# Altium footprint library eggubator.PcbLib: 21 footprints (part 2 of 2)
Each footprint in its own frame and in the unit in brackets; x right, y up, seen from the top. Pads: shape width x height; smd on the part's side, far side on the other; paste and mask are expansions set on the pad; w line width, h text height; cw(c..) or ccw(c..) is an arc to the next point about the centre after c.
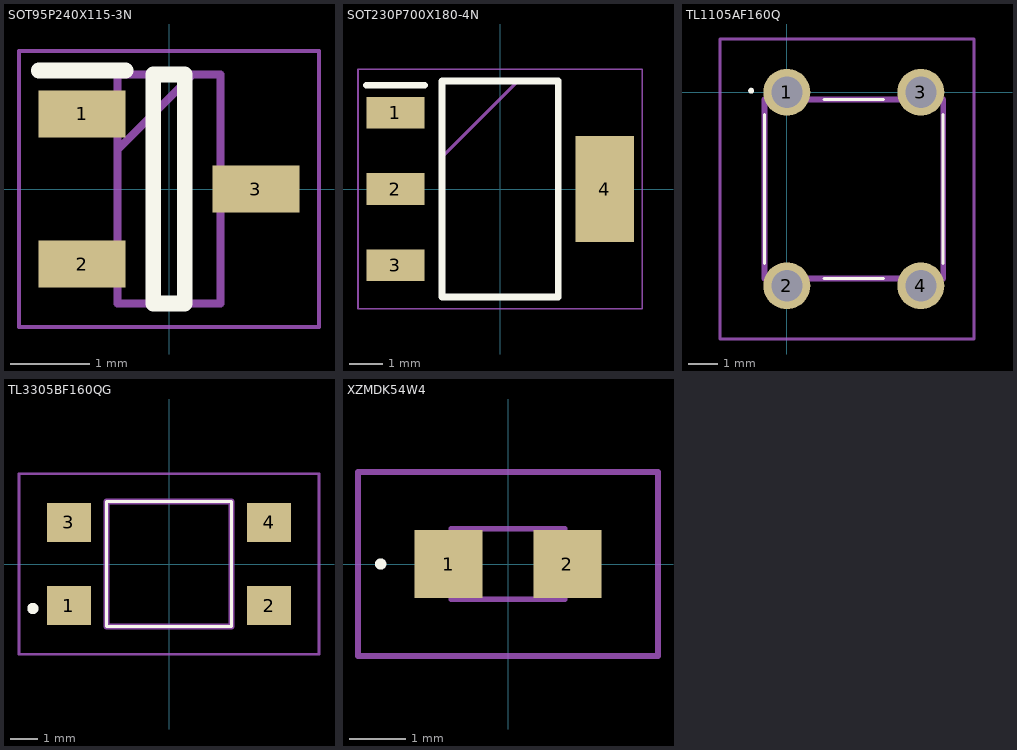
[diagram p1: the footprints below, top view; thin cyan lines are the x and y axes]

## SOT95P240X115-3N [mm]
pads (3):
  rect 1.1x0.6 smd: 1(-1.1,0.95) 2(-1.1,-0.95) 3(1.1,0)
Top Overlay:
  lines w0.2: -1.65,1.5 -0.55,1.5 ; -0.2,-1.45 0.2,-1.45 0.2,1.45 -0.2,1.45 -0.2,-1.45
Mechanical 13:
  lines w0.1: -0.65,0.5 0.3,1.45 ; -0.65,-1.45 0.65,-1.45 0.65,1.45 -0.65,1.45 -0.65,-1.45
Mechanical 15:
  lines w0.05: -1.9,-1.75 1.9,-1.75 1.9,1.75 -1.9,1.75 -1.9,-1.75
3D body "MMBT2222A-G.stp": height 1.15, standoff 0, extent -1.2,-1.45 1.2,1.45

## SOT230P700X180-4N [mm]
pads (4):
  rect 1.75x0.95 smd: 1(-3.15,2.3) 2(-3.15,0) 3(-3.15,-2.3)
  rect 1.75x3.2 smd: 4(3.15,0)
Top Overlay:
  lines w0.2: -4.025,3.125 -2.275,3.125 ; -1.75,-3.25 -1.75,3.25 1.75,3.25 1.75,-3.25 -1.75,-3.25
Mechanical 13:
  lines w0.1: -1.75,0.95 0.55,3.25 ; -1.75,-3.25 -1.75,3.25 1.75,3.25 1.75,-3.25 -1.75,-3.25
Mechanical 15:
  lines w0.05: -4.275,-3.6 -4.275,3.6 4.275,3.6 4.275,-3.6 -4.275,-3.6
3D body "LM1117IMPX3.3_NOPB.stp": height 1.68, standoff 0, extent -3.5,-3.25 3.5,3.25

## TL1105AF160Q [mm]
pads (4):
  round 1.575 hole 1.05: 1(0,0) 2(0,-6.5) 3(4.5,0) 4(4.5,-6.5)
Top Overlay:
  lines w0.1: -0.75,-5.75 -0.75,-0.75 ; 1.25,-6.25 3.25,-6.25 ; 1.25,-0.25 3.25,-0.25 ; 5.25,-5.75 5.25,-0.75 ; -1.2,0 cw(c-1.2,0.05) -1.2,0.1 cw(c-1.2,0.05) -1.2,0
Mechanical 13:
  lines w0.2: -0.75,-6.25 -0.75,-0.25 5.25,-0.25 5.25,-6.25 -0.75,-6.25
Mechanical 15:
  lines w0.1: -2.25,-8.287 -2.25,1.787 6.287,1.787 6.287,-8.287 -2.25,-8.287

## TL3305BF160QG [mm]
pads (4):
  rect 1.6x1.4 smd: 1(-3.6,-1.5) 2(3.6,-1.5) 3(-3.6,1.5) 4(3.6,1.5)
Top Overlay:
  lines w0.1: -2.25,-2.25 -2.25,2.25 2.25,2.25 2.25,-2.25 -2.25,-2.25
  lines w0.2: -5,-1.6 ccw(c-4.9,-1.6) -4.8,-1.6 ccw(c-4.9,-1.6) -5,-1.6
Mechanical 13:
  lines w0.2: -2.25,-2.25 -2.25,2.25 2.25,2.25 2.25,-2.25 -2.25,-2.25
Mechanical 15:
  lines w0.1: -5.4,-3.25 -5.4,3.25 5.4,3.25 5.4,-3.25 -5.4,-3.25
3D body "TL3305BF100QG.stp": height 10.5, standoff -4.7, extent -7,-6.4 7,6.4

## XZMDK54W4 [mm]
pads (2):
  rect 1.2x1.2 smd: 1(-1.05,0) 2(1.05,0)
Top Overlay:
  lines w0.1: -2.3,0 ccw(c-2.25,0) -2.2,0 ccw(c-2.25,0) -2.3,0
Mechanical 13:
  lines w0.1: -1,-0.625 -1,0.625 1,0.625 1,-0.625 -1,-0.625
Mechanical 15:
  lines w0.1: -2.65,-1.625 -2.65,1.625 2.65,1.625 2.65,-1.625 -2.65,-1.625
3D body "XZMDK54W-4.stp": height 0.6, standoff 0, extent -1,-0.625 1,0.625